# Altium footprint library PcbLibConnnectors.PcbLib: 16 footprints
Each footprint in its own frame and in the unit in brackets; x right, y up, seen from the top. Pads: shape width x height; smd on the part's side, far side on the other; paste and mask are expansions set on the pad; w line width, h text height; cw(c..) or ccw(c..) is an arc to the next point about the centre after c.
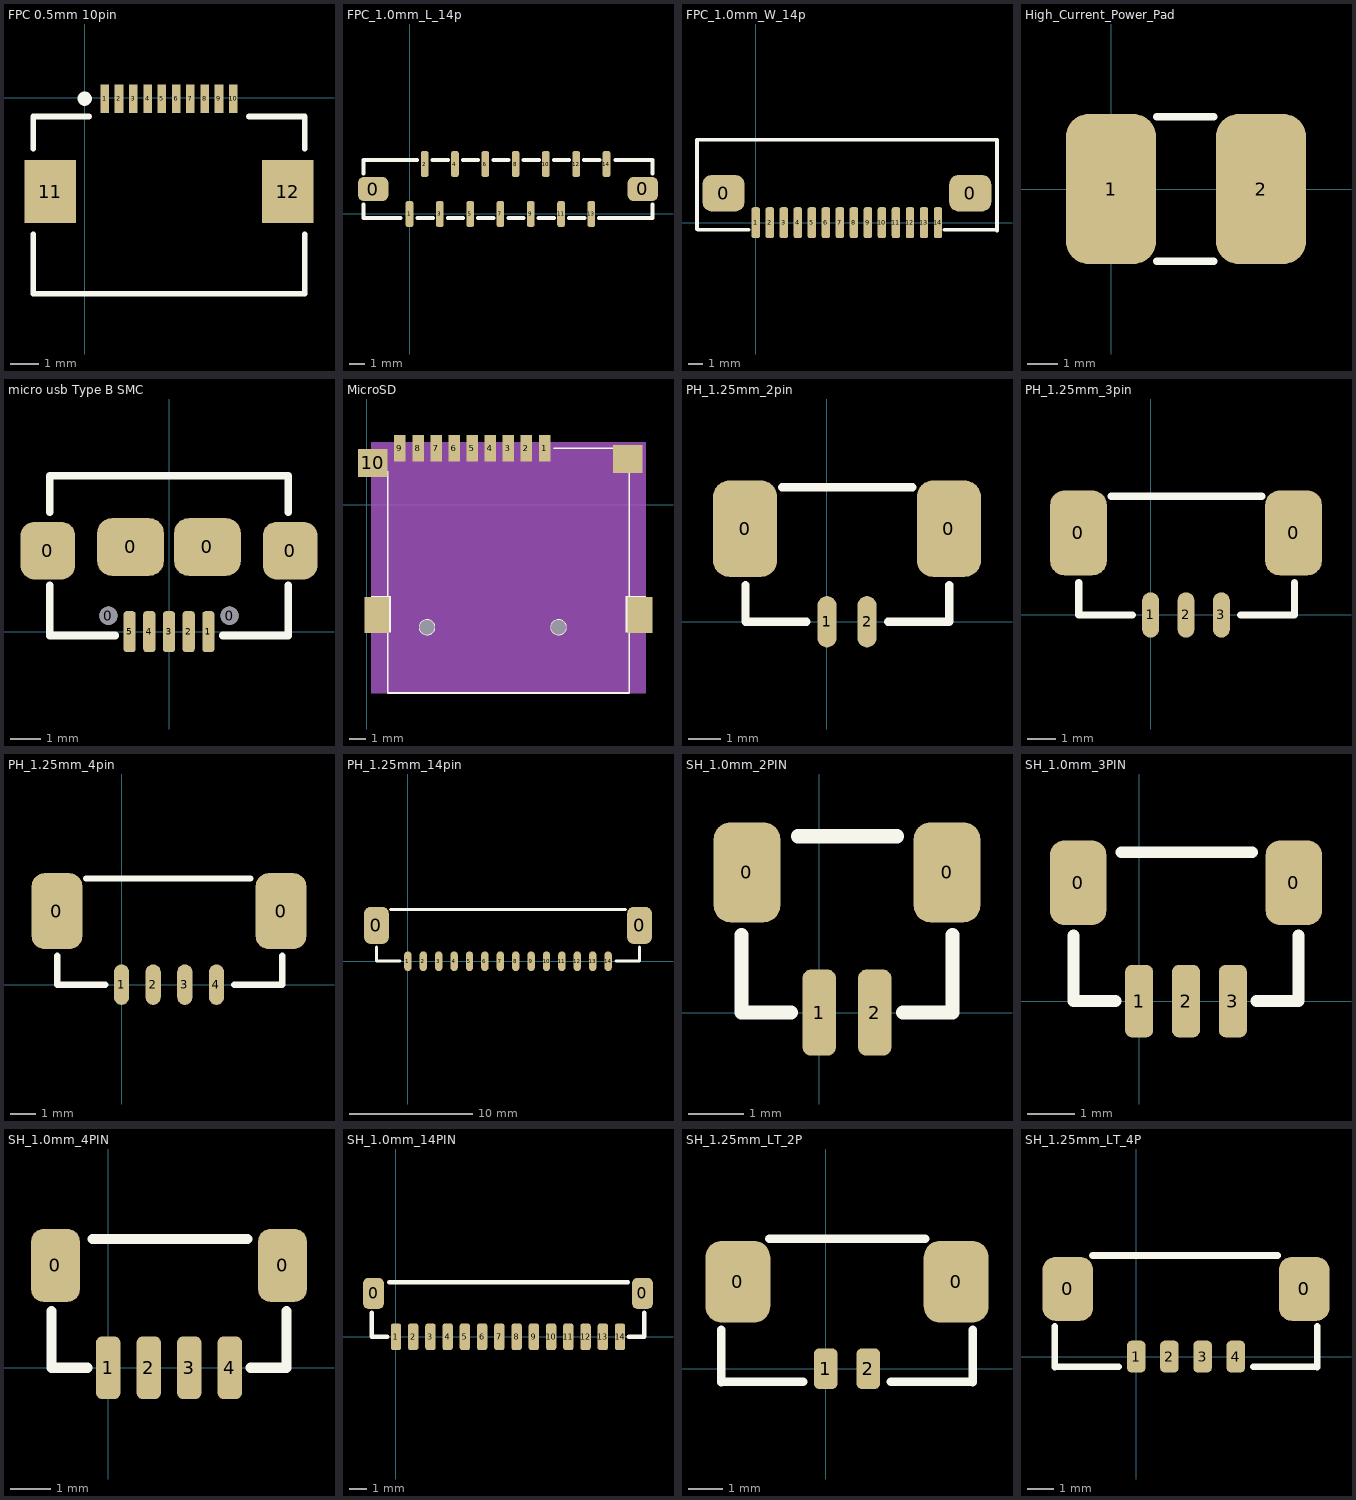
[diagram p0: the footprints below, top view; thin cyan lines are the x and y axes]

## FPC 0.5mm 10pin [mm]
pads (12):
  rect 0.3x1 smd: 1(0.7,-0.025) 2(1.2,-0.025) 3(1.7,-0.025) 4(2.2,-0.025) 5(2.7,-0.025) 6(3.2,-0.025) 7(3.7,-0.025) 8(4.2,-0.025) 9(4.7,-0.025) 10(5.2,-0.025)
  rect 1.8x2.2 smd: 11(-1.2,-3.275) 12(7.1,-3.275)
Top Overlay:
  circle w0.25: c0,-0.025 r0.125
  lines w0.2: -1.8,-4.775 -1.8,-6.85 7.7,-6.85 7.7,-4.775 ; -1.8,-1.775 -1.8,-0.65 0.15,-0.65 ; 5.75,-0.65 7.7,-0.65 7.7,-1.775
3D body "1302345_1-1734592-0.stp": height 2, standoff -0.05, extent -2.294,-5.09 8.136,0.02

## FPC_1.0mm_L_14p [mm]
pads (16):
  rrect50% 2x1.6 smd: 0(-2.4,1.65) 0(15.4,1.65)
  rrect50% 0.5x1.7 smd: 1(0,0) 2(1,3.3) 3(2,0) 4(3,3.3) 5(4,0) 6(5,3.3) 7(6,0) 8(7,3.3) 9(8,0) 10(9,3.3) 11(10,0) 12(11,3.3) 13(12,0) 14(13,3.3)
Top Overlay:
  lines w0.254: -3.048,0.633 -3.048,-0.256 -0.589,-0.256 ; -3.048,2.667 -3.048,3.556 0.508,3.556 ; 0.524,-0.256 1.54,-0.256 ; 1.524,3.556 2.54,3.556 ; 2.524,-0.256 3.54,-0.256 ; 3.524,3.556 4.54,3.556 ; 4.524,-0.256 5.54,-0.256 ; 5.524,3.556 6.54,3.556 ; 6.524,-0.256 7.54,-0.256 ; 7.524,3.556 8.54,3.556 ; 8.524,-0.256 9.54,-0.256 ; 9.524,3.556 10.54,3.556 ; 10.524,-0.256 11.54,-0.256 ; 11.524,3.556 12.54,3.556 ; 12.492,-0.256 16.048,-0.256 16.048,0.633 ; 13.589,3.556 16.048,3.556 16.048,2.667
3D body "ffc_fpc_affc10-14-100-svs-r.stp": height 5, standoff 0, extent -3.623,-0.737 16.577,4.064

## FPC_1.0mm_W_14p [mm]
pads (16):
  rrect50% 3x2.6 smd: 0(-2.3,2.1) 0(15.3,2.1)
  rrect50% 0.6x2.2 smd: 1(0,0) 2(1,0) 3(2,0) 4(3,0) 5(4,0) 6(5,0) 7(6,0) 8(7,0) 9(8,0) 10(9,0) 11(10,0) 12(11,0) 13(12,0) 14(13,0)
Top Overlay:
  lines w0.254: -0.508,-0.508 -4.136,-0.508 -4.191,-0.453 -4.191,5.897 17.209,5.897 17.209,-0.563 17.154,-0.508 13.462,-0.508
3D body "1-1734417-4.stp": height 2.93, standoff -0.11, extent -4.191,-0.563 17.209,5.897

## High_Current_Power_Pad [mm]
pads (2):
  rrect50% 3x5 smd: 1(0,0) 2(5,0)
Top Overlay:
  lines w0.254: 1.524,-2.413 3.429,-2.413 ; 1.524,2.413 3.429,2.413

## micro usb Type B SMC [mm]
pads (11):
  rrect50% 1.8x1.9 smd: 0(-4,2.675) 0(4,2.675)
  round 0.6 hole 0.6: 0(-2,0.525) 0(2,0.525)
  rrect50% 2.2x1.9 smd: 0(-1.27,2.794) 0(1.27,2.794)
  rrect50% 0.4x1.35 smd: 1(1.3,0) 2(0.65,0) 3(0,0) 4(-0.65,0) 5(-1.3,0)
Top Overlay:
  lines w0.254: -3.937,1.524 -3.937,-0.127 -1.778,-0.127 ; -3.937,3.937 -3.937,5.14 3.937,5.14 3.937,3.937 ; 1.778,-0.127 3.937,-0.127 3.937,1.524
3D body "User Library-Micro USB.step": height 2.67, standoff -0.27, extent -3.99,-0.237 3.99,5.193

## MicroSD [mil]
pads (15):
  rect 27.6x63 smd: 1(425.6,135.4) 2(382.3,135.4) 3(339,135.4) 4(295.7,135.4) 5(252.4,135.4) 6(209.1,135.4) 7(165.8,135.4) 8(122.5,135.4) 9(79.2,135.4)
  rect 70.9x66.9 smd: 10(14.2,100) " "(624.4,109.8)
  rect 59.1x86.6 smd: " "(24,-264.2) " "(654,-264.2)
  round 35.4 hole 35.4: " "(144.1,-293.7) " "(459.1,-293.7)
Top Overlay:
  circle w3.9: c459.08,-293.7 r17.7
  circle w3.9: c144.12,-293.7 r17.7
  pour cut-out: 10.3,-218.9 57.5,-218.9 57.5,-305.5 10.3,-305.5
  pour cut-out: 620.5,-218.9 667.7,-218.9 667.7,-305.5 620.5,-305.5
  lines w3.9: 49.6,80.3 49.6,-451.2 628.4,-451.2 628.4,135.4 447.3,135.4
Mechanical 7:
  text "6" at 209.1,145.48 h25.2
  text "10" at -35.8,140.32 h25.2
  text "7" at 165.8,145.48 h25.2
  text "9" at 79.2,145.48 h25.2
  text "3" at 339,145.48 h25.2
  text "2" at 382.3,145.48 h25.2
  text "1" at 425.6,145.48 h25.2
  text "8" at 122.5,145.48 h25.2
  text "4" at 295.7,145.48 h25.2
  text "5" at 252.4,145.48 h25.2
Mechanical 8:
  lines w3.9: 49.6,-309.45 49.6,-451.2 628.4,-451.2 628.4,-309.45 ; 49.6,-218.95 49.6,64.6 ; 447.3,135.4 587,135.4 ; 628.4,-218.95 628.4,74.4
Mechanical 10:
  region: 10.3,-451.2 667.7,-451.2 667.7,149.2 10.3,149.2
3D body "User Library-112J-TXAR-R_C_1-1.STEP": height 72.83, standoff -23.62, extent 22.07,-450.66 655.93,140

## PH_1.25mm_2pin [mm]
pads (4):
  rrect50% 2x3 smd: 0(-2.55,2.9) 0(3.8,2.9)
  oval 0.6x1.6 smd: 1(0,0) 2(1.25,0)
Top Overlay:
  lines w0.254: -2.54,1.143 -2.54,0 -0.635,0 ; -1.397,4.191 2.667,4.191 ; 1.905,0 3.81,0 3.81,1.143

## PH_1.25mm_3pin [mm]
pads (5):
  rrect50% 2x3 smd: 0(-2.55,2.9) 0(5.05,2.9)
  oval 0.6x1.6 smd: 1(0,0) 2(1.25,0) 3(2.5,0)
Top Overlay:
  lines w0.254: -2.54,1.143 -2.54,0 -0.635,0 ; -1.397,4.191 3.937,4.191 ; 3.175,0 5.08,0 5.08,1.143

## PH_1.25mm_4pin [mm]
pads (6):
  rrect50% 2x3 smd: 0(-2.55,2.9) 0(6.3,2.9)
  oval 0.6x1.6 smd: 1(0,0) 2(1.25,0) 3(2.5,0) 4(3.75,0)
Top Overlay:
  lines w0.254: -2.54,1.143 -2.54,0 -0.635,0 ; -1.397,4.191 5.08,4.191 ; 4.445,0 6.35,0 6.35,1.143

## PH_1.25mm_14pin [mm]
pads (16):
  rrect50% 2x3 smd: 0(-2.55,2.9) 0(18.8,2.9)
  oval 0.6x1.6 smd: 1(0,0) 2(1.25,0) 3(2.5,0) 4(3.75,0) 5(5,0) 6(6.25,0) 7(7.5,0) 8(8.75,0) 9(10,0) 10(11.25,0) 11(12.5,0) 12(13.75,0) 13(15,0) 14(16.25,0)
Top Overlay:
  lines w0.254: -2.54,1.143 -2.54,0 -0.635,0 ; -1.397,4.191 17.653,4.191 ; 16.885,0 18.79,0 18.79,1.143

## SH_1.0mm_2PIN [mm]
pads (4):
  rrect50% 1.2x1.8 smd: 0(-1.3,2.525) 0(2.3,2.525)
  rrect50% 0.6x1.55 smd: 1(0,0) 2(1,0)
Top Overlay:
  lines w0.254: -1.397,1.397 -1.397,0 -0.508,0 ; -0.381,3.175 1.397,3.175 ; 1.508,0 2.397,0 2.397,1.397

## SH_1.0mm_3PIN [mm]
pads (5):
  rrect50% 1.2x1.8 smd: 0(-1.3,2.525) 0(3.3,2.525)
  rrect50% 0.6x1.55 smd: 1(0,0) 2(1,0) 3(2,0)
Top Overlay:
  lines w0.254: -1.397,1.397 -1.397,0 -0.508,0 ; -0.381,3.175 2.413,3.175 ; 2.508,0 3.397,0 3.397,1.397

## SH_1.0mm_4PIN [mm]
pads (6):
  rrect50% 1.2x1.8 smd: 0(-1.3,2.525) 0(4.3,2.525)
  rrect50% 0.6x1.55 smd: 1(0,0) 2(1,0) 3(2,0) 4(3,0)
Top Overlay:
  lines w0.254: -1.397,1.397 -1.397,0 -0.508,0 ; -0.381,3.175 3.429,3.175 ; 3.508,0 4.397,0 4.397,1.397

## SH_1.0mm_14PIN [mm]
pads (16):
  rrect50% 1.2x1.8 smd: 0(-1.3,2.525) 0(14.3,2.525)
  rrect50% 0.6x1.55 smd: 1(0,0) 2(1,0) 3(2,0) 4(3,0) 5(4,0) 6(5,0) 7(6,0) 8(7,0) 9(8,0) 10(9,0) 11(10,0) 12(11,0) 13(12,0) 14(13,0)
Top Overlay:
  lines w0.254: -1.397,1.397 -1.397,0 -0.508,0 ; -0.381,3.175 13.462,3.175 ; 13.508,0 14.397,0 14.397,1.397

## SH_1.25mm_LT_2P [mm]
pads (4):
  rrect50% 1.9x2.4 smd: 0(-2.575,2.55) 0(3.825,2.55)
  rrect50% 0.7x1.2 smd: 1(0,0) 2(1.25,0)
Top Overlay:
  lines w0.254: -3.068,1.143 -3.068,-0.392 -3.057,-0.381 -0.655,-0.381 ; -1.651,3.81 2.921,3.81 ; 1.905,-0.381 4.307,-0.381 4.318,-0.392 4.318,1.143
3D body "66044.stp": height 4.97, standoff -0.03, extent -2.99,-0.45 4.26,3.755

## SH_1.25mm_LT_4P [mm]
pads (6):
  rrect50% 1.9x2.4 smd: 0(-2.575,2.55) 0(6.325,2.55)
  rrect50% 0.7x1.2 smd: 1(0,0) 2(1.25,0) 3(2.5,0) 4(3.75,0)
Top Overlay:
  lines w0.254: -3.068,1.143 -3.068,-0.392 -3.057,-0.381 -0.655,-0.381 ; -1.651,3.81 5.334,3.81 ; 4.405,-0.381 6.807,-0.381 ; 6.818,-0.392 6.818,1.143
3D body "66048.stp": height 4.97, standoff -0.03, extent -2.921,-0.452 6.829,3.754